# EAGLE library part ATMEGA168 (library isb_microcontrollers)
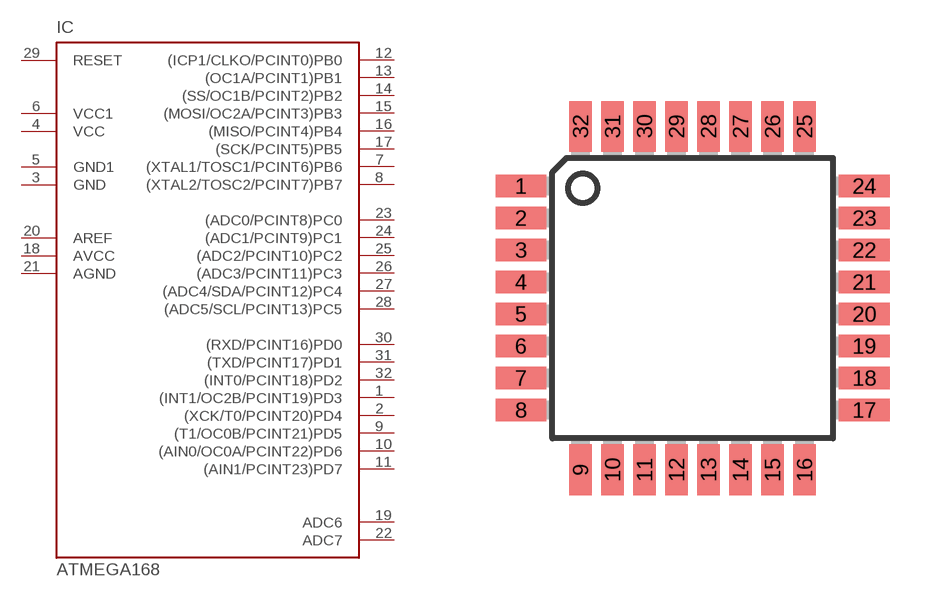
[diagram p9: symbol with the pads of TQFP32-08; footprint TQFP32-08]

Designator prefix IC

## ATMEGA168  [TQFP32-08]
1  (INT1/OC2B/PCINT19)PD3
2  (XCK/T0/PCINT20)PD4
3  GND  pwr
4  VCC  pwr
5  GND1  pwr
6  VCC1  pwr
7  (XTAL1/TOSC1/PCINT6)PB6
8  (XTAL2/TOSC2/PCINT7)PB7
9  (T1/OC0B/PCINT21)PD5
10  (AIN0/OC0A/PCINT22)PD6
11  (AIN1/PCINT23)PD7
12  (ICP1/CLKO/PCINT0)PB0
13  (OC1A/PCINT1)PB1
14  (SS/OC1B/PCINT2)PB2
15  (MOSI/OC2A/PCINT3)PB3
16  (MISO/PCINT4)PB4
17  (SCK/PCINT5)PB5
18  AVCC  pwr
19  ADC6  in
20  AREF  pwr
21  AGND  pwr
22  ADC7  in
23  (ADC0/PCINT8)PC0
24  (ADC1/PCINT9)PC1
25  (ADC2/PCINT10)PC2
26  (ADC3/PCINT11)PC3
27  (ADC4/SDA/PCINT12)PC4
28  (ADC5/SCL/PCINT13)PC5
29  RESET  in
30  (RXD/PCINT16)PD0
31  (TXD/PCINT17)PD1
32  (INT0/PCINT18)PD2

## Footprint TQFP32-08 (pad centres in mm)
Thin Plasic Quad Flat Package Grid 0.8 mm
smd 1.27 x 0.559: 1 -4.293,2.8; 2 -4.293,2; 3 -4.293,1.2; 4 -4.293,0.4; 5 -4.293,-0.4; 6 -4.293,-1.2; 7 -4.293,-2; 8 -4.293,-2.8; 17 4.293,-2.8; 18 4.293,-2; 19 4.293,-1.2; 20 4.293,-0.4; 21 4.293,0.4; 22 4.293,1.2; 23 4.293,2; 24 4.293,2.8
smd 0.559 x 1.27: 9 -2.8,-4.293; 10 -2,-4.293; 11 -1.2,-4.293; 12 -0.4,-4.293; 13 0.4,-4.293; 14 1.2,-4.293; 15 2,-4.293; 16 2.8,-4.293; 25 2.8,4.293; 26 2,4.293; 27 1.2,4.293; 28 0.4,4.293; 29 -0.4,4.293; 30 -1.2,4.293; 31 -2,4.293; 32 -2.8,4.293